# Altium schematic symbol library Rising Clamp System WR-TBL_5.00 mm.SchLib: 71 symbols
Pins are listed as number, name and electrical type; pins without a type are passive.

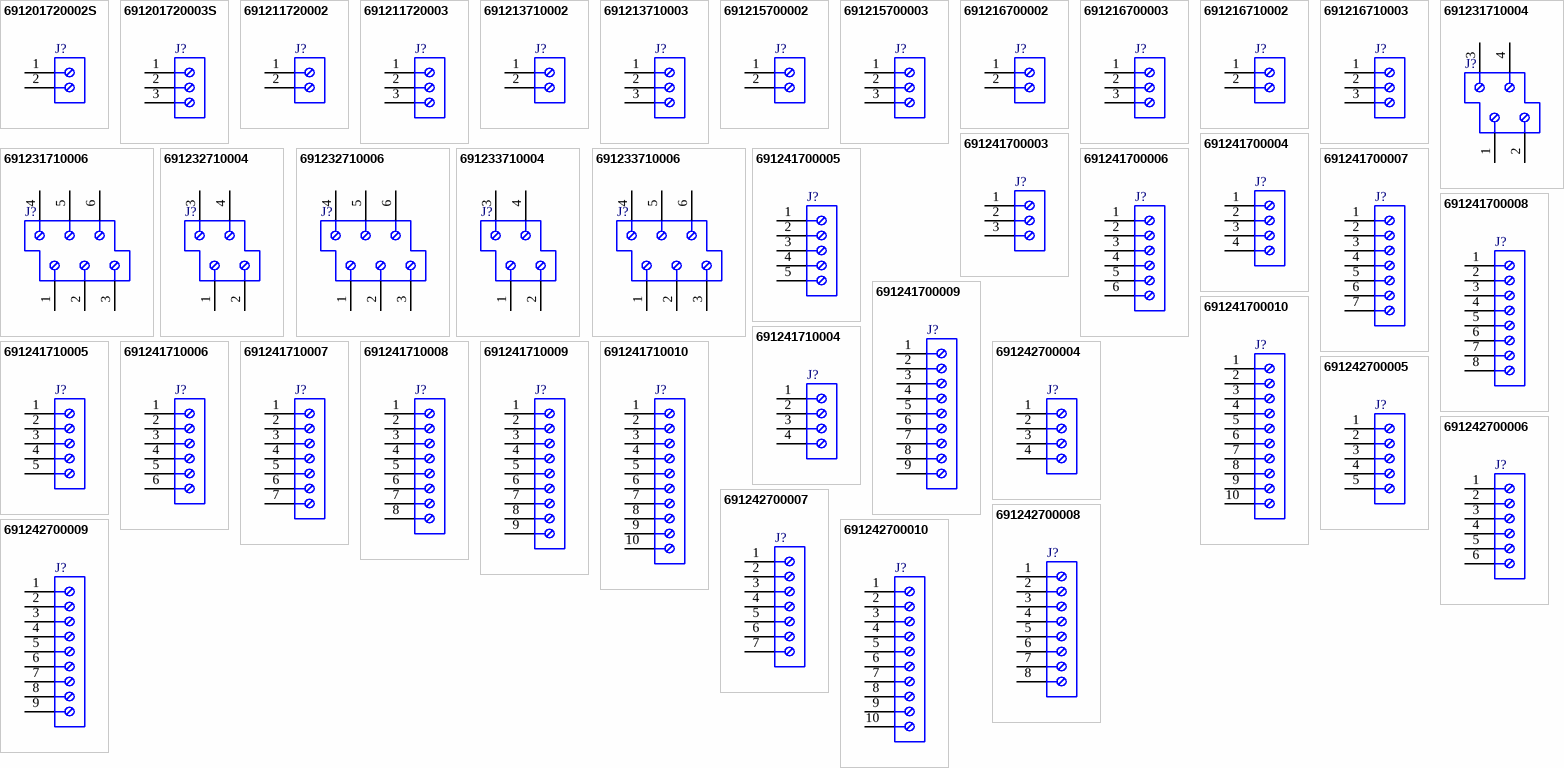
[diagram p0: symbols 691201720002S to 691242700010]

## 691201720002S
designator J?
Serie 201S - 5.00 mm 45deg Cable Entry Modular with Rising Cage Clamp WR-TBL, 2 pin; Part Number: 691201720002S; Pin Number: 2; Pitch: 5.00 mm; ComponentLink1Description: Manufacturer; ComponentLink1URL: http://www.we-online.de; ComponentLink2Description: Datasheet; ComponentLink2URL: http://katalog.we-online.de/em/datasheet/6912017200XXS.pdf; Published Date: June 2018; Publisher: Wurth Elektronik; Operating Temperature: -30 to 120 degC; Mounting Technology: THT; Packaging: Box
footprint 691201720002S
pins: 1, 2

## 691201720003S
designator J?
Serie 201S - 5.00 mm 45deg Cable Entry Modular with Rising Cage Clamp WR-TBL, 3 pin; Part Number: 691201720003S; Pin Number: 3; Pitch: 5.00 mm; ComponentLink1Description: Manufacturer; ComponentLink1URL: http://www.we-online.de; ComponentLink2Description: Datasheet; ComponentLink2URL: http://katalog.we-online.de/em/datasheet/6912017200XXS.pdf; Published Date: June 2018; Publisher: Wurth Elektronik; Operating Temperature: -30 to 120 degC; Mounting Technology: THT; Packaging: Box
footprint 691201720003S
pins: 1, 2, 3

## 691211720002
designator J?
Serie 211 - 5.00 mm 45deg Entry Modular with Rising Cage Clamp - 15.50 mm Height WR-TBL, 2 pin; Part Number: 691211720002; Pin Number: 2; Pitch: 5.00 mm; ComponentLink1Description: Manufacturer; ComponentLink1URL: http://www.we-online.de; ComponentLink2Description: Datasheet; ComponentLink2URL: http://katalog.we-online.de/em/datasheet/6912117200xx.pdf; Published Date: June 2018; Publisher: Wurth Elektronik; Operating Temperature: -40 to 105 degC; Mounting Technology: THT; Packaging: Box
footprint 691211720002
pins: 1, 2

## 691211720003
designator J?
Serie 211 - 5.00 mm 45deg Entry Modular with Rising Cage Clamp - 15.50 mm Height WR-TBL, 3 pin; Part Number: 691211720003; Pin Number: 3; Pitch: 5.00 mm; ComponentLink1Description: Manufacturer; ComponentLink1URL: http://www.we-online.de; ComponentLink2Description: Datasheet; ComponentLink2URL: http://katalog.we-online.de/em/datasheet/6912117200xx.pdf; Published Date: June 2018; Publisher: Wurth Elektronik; Operating Temperature: -40 to 105 degC; Mounting Technology: THT; Packaging: Box
footprint 691211720003
pins: 1, 2, 3

## 691213710002
designator J?
Serie 213 - 5.00 mm Horizontal Entry Modular with RisingCage Clamp WR-TBL, 2 pin; Part Number: 691213710002; Pin Number: 2; Pitch: 5.00 mm; ComponentLink1Description: Manufacturer; ComponentLink1URL: http://www.we-online.de; ComponentLink2Description: Datasheet; ComponentLink2URL: http://katalog.we-online.de/em/datasheet/6912137100xx.pdf; Published Date: June 2018; Publisher: Wurth Elektronik; Operating Temperature: -40 to 105 degC; Mounting Technology: THT; Packaging: Box
footprint 691213710002
pins: 1, 2

## 691213710003
designator J?
Serie 213 - 5.00 mm Horizontal Entry Modular with RisingCage Clamp WR-TBL, 3 pin; Part Number: 691213710003; Pin Number: 3; Pitch: 5.00 mm; ComponentLink1Description: Manufacturer; ComponentLink1URL: http://www.we-online.de; ComponentLink2Description: Datasheet; ComponentLink2URL: http://katalog.we-online.de/em/datasheet/6912137100xx.pdf; Published Date: June 2018; Publisher: Wurth Elektronik; Operating Temperature: -40 to 105 degC; Mounting Technology: THT; Packaging: Box
footprint 691213710003
pins: 1, 2, 3

## 691215700002
designator J?
Serie 2157 - 5.00 mm Vertical Entry Modular with Rising Cage Clamp WR-TBL, 2 pin; Part Number: 691215700002; Pin Number: 2; Pitch: 5.00 mm; ComponentLink1Description: Manufacturer; ComponentLink1URL: http://www.we-online.de; ComponentLink2Description: Datasheet; ComponentLink2URL: http://katalog.we-online.de/em/datasheet/6912157000xx.pdf; Published Date: June 2018; Publisher: Wurth Elektronik; Operating Temperature: -40 to 105 degC; Mounting Technology: THT; Packaging: Box
footprint 691215700002
pins: 1, 2

## 691215700003
designator J?
Serie 2157 - 5.00 mm Vertical Entry Modular with Rising Cage Clamp WR-TBL, 3 pin; Part Number: 691215700003; Pin Number: 3; Pitch: 5.00 mm; ComponentLink1Description: Manufacturer; ComponentLink1URL: http://www.we-online.de; ComponentLink2Description: Datasheet; ComponentLink2URL: http://katalog.we-online.de/em/datasheet/6912157000xx.pdf; Published Date: June 2018; Publisher: Wurth Elektronik; Operating Temperature: -40 to 105 degC; Mounting Technology: THT; Packaging: Box
footprint 691215700003
pins: 1, 2, 3

## 691216700002
designator J?
Serie 2167 - 5.00 mm Vertical Entry Modular with Rising Cage Clamp WR-TBL, 2 pin; Part Number: 691216700002; Pin Number: 2; Pitch: 5.00 mm; ComponentLink1Description: Manufacturer; ComponentLink1URL: http://www.we-online.de; ComponentLink2Description: Datasheet; ComponentLink2URL: http://katalog.we-online.de/em/datasheet/6912167000xx.pdf; Published Date: June 2018; Publisher: Wurth Elektronik; Operating Temperature: -30 to 120 degC; Mounting Technology: THT; Packaging: Box
footprint 691216700002
pins: 1, 2

## 691216700003
designator J?
Serie 2167 - 5.00 mm Vertical Entry Modular with Rising Cage Clamp WR-TBL, 3 pin; Part Number: 691216700003; Pin Number: 3; Pitch: 5.00 mm; ComponentLink1Description: Manufacturer; ComponentLink1URL: http://www.we-online.de; ComponentLink2Description: Datasheet; ComponentLink2URL: http://katalog.we-online.de/em/datasheet/6912167000xx.pdf; Published Date: June 2018; Publisher: Wurth Elektronik; Operating Temperature: -30 to 120 degC; Mounting Technology: THT; Packaging: Box
footprint 691216700003
pins: 1, 2, 3

## 691216710002
designator J?
Serie 2167 - 5.00 mm Horizontal Cable Entry Modular with Rising Cage Clamp WR-TBL, 2 pin; Part Number: 691216710002; Pin Number: 2; Pitch: 5.00 mm; ComponentLink1Description: Manufacturer; ComponentLink1URL: http://www.we-online.de; ComponentLink2Description: Datasheet; ComponentLink2URL: http://katalog.we-online.de/em/datasheet/6912167100XX.pdf; Published Date: June 2018; Publisher: Wurth Elektronik; Operating Temperature: -30 to 120 degC; Mounting Technology: THT; Packaging: Box
footprint 691216710002
pins: 1, 2

## 691216710003
designator J?
Serie 2167 - 5.00 mm Horizontal Cable Entry Modular with Rising Cage Clamp WR-TBL, 3 pin; Part Number: 691216710003; Pin Number: 3; Pitch: 5.00 mm; ComponentLink1Description: Manufacturer; ComponentLink1URL: http://www.we-online.de; ComponentLink2Description: Datasheet; ComponentLink2URL: http://katalog.we-online.de/em/datasheet/6912167100XX.pdf; Published Date: June 2018; Publisher: Wurth Elektronik; Operating Temperature: -30 to 120 degC; Mounting Technology: THT; Packaging: Box
footprint 691216710003
pins: 1, 2, 3

## 691231710004
designator J?
Serie 2317 - 5.00 mm Double Level Horizontal Entry Modular with Rising Cage WR-TBL, 4 pin; Part Number: 691231710004; Pin Number: 4; Pitch: 5.00 mm; ComponentLink1Description: Manufacturer; ComponentLink1URL: http://www.we-online.de; ComponentLink2Description: Datasheet; ComponentLink2URL: http://katalog.we-online.de/em/datasheet/6912317100xx.pdf; Published Date: June 2018; Publisher: Wurth Elektronik; Operating Temperature: -40 to 105 degC; Mounting Technology: THT; Packaging: Box
footprint 691231710004
pins: 1, 2, 3, 4

## 691231710006
designator J?
Serie 2317 - 5.00 mm Double Level Horizontal Entry Modular with Rising Cage WR-TBL, 6 pin; Part Number: 691231710006; Pin Number: 6; Pitch: 5.00 mm; ComponentLink1Description: Manufacturer; ComponentLink1URL: http://www.we-online.de; ComponentLink2Description: Datasheet; ComponentLink2URL: http://katalog.we-online.de/em/datasheet/6912317100xx.pdf; Published Date: June 2018; Publisher: Wurth Elektronik; Operating Temperature: -40 to 105 degC; Mounting Technology: THT; Packaging: Box
footprint 691231710006
pins: 1, 2, 3, 4, 5, 6

## 691232710004
designator J?
Serie 2327 - 5.00 mm Double Level Horizontal Entry Modular with Rising Cage WR-TBL, 4 pin; Part Number: 691232710004; Pin Number: 4; Pitch: 5.00 mm; ComponentLink1Description: Manufacturer; ComponentLink1URL: http://www.we-online.de; ComponentLink2Description: Datasheet; ComponentLink2URL: http://katalog.we-online.de/em/datasheet/6912327100xx.pdf; Published Date: June 2018; Publisher: Wurth Elektronik; Operating Temperature: -40 to 105 degC; Mounting Technology: THT; Packaging: Box
footprint 691232710004
pins: 1, 2, 3, 4

## 691232710006
designator J?
Serie 2327 - 5.00 mm Double Level Horizontal Entry Modular with Rising Cage WR-TBL, 6 pin; Part Number: 691232710006; Pin Number: 6; Pitch: 5.00 mm; ComponentLink1Description: Manufacturer; ComponentLink1URL: http://www.we-online.de; ComponentLink2Description: Datasheet; ComponentLink2URL: http://katalog.we-online.de/em/datasheet/6912327100xx.pdf; Published Date: June 2018; Publisher: Wurth Elektronik; Operating Temperature: -40 to 105 degC; Mounting Technology: THT; Packaging: Box
footprint 691232710006
pins: 1, 2, 3, 4, 5, 6

## 691233710004
designator J?
Serie 2337 - 5.00 mm Double Level Horizontal Entry Modular with Rising Cage WR-TBL, 4 pin; Part Number: 691233710004; Pin Number: 4; Pitch: 5.00 mm; ComponentLink1Description: Manufacturer; ComponentLink1URL: http://www.we-online.de; ComponentLink2Description: Datasheet; ComponentLink2URL: http://katalog.we-online.de/em/datasheet/6912337100xx.pdf; Published Date: June 2018; Publisher: Wurth Elektronik; Operating Temperature: -40 to 105 degC; Mounting Technology: THT; Packaging: Box
footprint 691233710004
pins: 1, 2, 3, 4

## 691233710006
designator J?
Serie 2337 - 5.00 mm Double Level Horizontal Entry Modular with Rising Cage WR-TBL, 6 pin; Part Number: 691233710006; Pin Number: 6; Pitch: 5.00 mm; ComponentLink1Description: Manufacturer; ComponentLink1URL: http://www.we-online.de; ComponentLink2Description: Datasheet; ComponentLink2URL: http://katalog.we-online.de/em/datasheet/6912337100xx.pdf; Published Date: June 2018; Publisher: Wurth Elektronik; Operating Temperature: -40 to 105 degC; Mounting Technology: THT; Packaging: Box
footprint 691233710006
pins: 1, 2, 3, 4, 5, 6

## 691241700003
designator J?
Serie 2417 - 5.00 mm Vertical Cable Entry with Rising Cage Clamp WR-TBL, 3 pin; Part Number: 691241700003; Pin Number: 3; Pitch: 5.00 mm; ComponentLink1Description: Manufacturer; ComponentLink1URL: http://www.we-online.de; ComponentLink2Description: Datasheet; ComponentLink2URL: http://katalog.we-online.de/em/datasheet/691241700003.pdf; Published Date: June 2018; Publisher: Wurth Elektronik; Operating Temperature: -30 to 120 degC; Mounting Technology: THT; Packaging: Box
footprint 691241700003
pins: 1, 2, 3

## 691241700004
designator J?
Serie 2417 - 5.00 mm Vertical Cable Entry with Rising Cage Clamp WR-TBL, 4 pin; Part Number: 691241700004; Pin Number: 4; Pitch: 5.00 mm; ComponentLink1Description: Manufacturer; ComponentLink1URL: http://www.we-online.de; ComponentLink2Description: Datasheet; ComponentLink2URL: http://katalog.we-online.de/em/datasheet/691241700004.pdf; Published Date: June 2018; Publisher: Wurth Elektronik; Operating Temperature: -30 to 120 degC; Mounting Technology: THT; Packaging: Box
footprint 691241700004
pins: 1, 2, 3, 4

## 691241700005
designator J?
Serie 2417 - 5.00 mm Vertical Cable Entry with Rising Cage Clamp WR-TBL, 5 pin; Part Number: 691241700005; Pin Number: 5; Pitch: 5.00 mm; ComponentLink1Description: Manufacturer; ComponentLink1URL: http://www.we-online.de; ComponentLink2Description: Datasheet; ComponentLink2URL: http://katalog.we-online.de/em/datasheet/691241700005.pdf; Published Date: June 2018; Publisher: Wurth Elektronik; Operating Temperature: -30 to 120 degC; Mounting Technology: THT; Packaging: Box
footprint 691241700005
pins: 1, 2, 3, 4, 5

## 691241700006
designator J?
Serie 2417 - 5.00 mm Vertical Cable Entry with Rising Cage Clamp WR-TBL, 6 pin; Part Number: 691241700006; Pin Number: 6; Pitch: 5.00 mm; ComponentLink1Description: Manufacturer; ComponentLink1URL: http://www.we-online.de; ComponentLink2Description: Datasheet; ComponentLink2URL: http://katalog.we-online.de/em/datasheet/691241700006.pdf; Published Date: June 2018; Publisher: Wurth Elektronik; Operating Temperature: -30 to 120 degC; Mounting Technology: THT; Packaging: Box
footprint 691241700006
pins: 1, 2, 3, 4, 5, 6

## 691241700007
designator J?
Serie 2417 - 5.00 mm Vertical Cable Entry with Rising Cage Clamp WR-TBL, 7 pin; Part Number: 691241700007; Pin Number: 7; Pitch: 5.00 mm; ComponentLink1Description: Manufacturer; ComponentLink1URL: http://www.we-online.de; ComponentLink2Description: Datasheet; ComponentLink2URL: http://katalog.we-online.de/em/datasheet/691241700007.pdf; Published Date: June 2018; Publisher: Wurth Elektronik; Operating Temperature: -30 to 120 degC; Mounting Technology: THT; Packaging: Box
footprint 691241700007
pins: 1, 2, 3, 4, 5, 6, 7

## 691241700008
designator J?
Serie 2417 - 5.00 mm Vertical Cable Entry with Rising Cage Clamp WR-TBL, 8 pin; Part Number: 691241700008; Pin Number: 8; Pitch: 5.00 mm; ComponentLink1Description: Manufacturer; ComponentLink1URL: http://www.we-online.de; ComponentLink2Description: Datasheet; ComponentLink2URL: http://katalog.we-online.de/em/datasheet/691241700008.pdf; Published Date: June 2018; Publisher: Wurth Elektronik; Operating Temperature: -30 to 120 degC; Mounting Technology: THT; Packaging: Box
footprint 691241700008
pins: 1, 2, 3, 4, 5, 6, 7, 8

## 691241700009
designator J?
Serie 2417 - 5.00 mm Vertical Cable Entry with Rising Cage Clamp WR-TBL, 9 pin; Part Number: 691241700009; Pin Number: 9; Pitch: 5.00 mm; ComponentLink1Description: Manufacturer; ComponentLink1URL: http://www.we-online.de; ComponentLink2Description: Datasheet; ComponentLink2URL: http://katalog.we-online.de/em/datasheet/691241700009.pdf; Published Date: June 2018; Publisher: Wurth Elektronik; Operating Temperature: -30 to 120 degC; Mounting Technology: THT; Packaging: Box
footprint 691241700009
pins: 1, 2, 3, 4, 5, 6, 7, 8, 9

## 691241700010
designator J?
Serie 2417 - 5.00 mm Vertical Cable Entry with Rising Cage Clamp WR-TBL, 10 pin; Part Number: 691241700010; Pin Number: 10; Pitch: 5.00 mm; ComponentLink1Description: Manufacturer; ComponentLink1URL: http://www.we-online.de; ComponentLink2Description: Datasheet; ComponentLink2URL: http://katalog.we-online.de/em/datasheet/691241700010.pdf; Published Date: June 2018; Publisher: Wurth Elektronik; Operating Temperature: -30 to 120 degC; Mounting Technology: THT; Packaging: Box
footprint 691241700010
pins: 1, 2, 3, 4, 5, 6, 7, 8, 9, 10

## 691241710004
designator J?
Serie 2417 - 5.00 mm Horizontal Entry with Rising Cage Clamp WR-TBL, 4 pin; Part Number: 691241710004; Pin Number: 4; Pitch: 5.00 mm; ComponentLink1Description: Manufacturer; ComponentLink1URL: http://www.we-online.de; ComponentLink2Description: Datasheet; ComponentLink2URL: http://katalog.we-online.de/em/datasheet/6912417100xx.pdf; Published Date: June 2018; Publisher: Wurth Elektronik; Operating Temperature: -30 to 120 degC; Mounting Technology: THT; Packaging: Box
footprint 691241710004
pins: 1, 2, 3, 4

## 691241710005
designator J?
Serie 2417 - 5.00 mm Horizontal Entry with Rising Cage Clamp WR-TBL, 5 pin; Part Number: 691241710005; Pin Number: 5; Pitch: 5.00 mm; ComponentLink1Description: Manufacturer; ComponentLink1URL: http://www.we-online.de; ComponentLink2Description: Datasheet; ComponentLink2URL: http://katalog.we-online.de/em/datasheet/6912417100xx.pdf; Published Date: June 2018; Publisher: Wurth Elektronik; Operating Temperature: -30 to 120 degC; Mounting Technology: THT; Packaging: Box
footprint 691241710005
pins: 1, 2, 3, 4, 5

## 691241710006
designator J?
Serie 2417 - 5.00 mm Horizontal Entry with Rising Cage Clamp WR-TBL, 6 pin; Part Number: 691241710006; Pin Number: 6; Pitch: 5.00 mm; ComponentLink1Description: Manufacturer; ComponentLink1URL: http://www.we-online.de; ComponentLink2Description: Datasheet; ComponentLink2URL: http://katalog.we-online.de/em/datasheet/6912417100xx.pdf; Published Date: June 2018; Publisher: Wurth Elektronik; Operating Temperature: -30 to 120 degC; Mounting Technology: THT; Packaging: Box
footprint 691241710006
pins: 1, 2, 3, 4, 5, 6

## 691241710007
designator J?
Serie 2417 - 5.00 mm Horizontal Entry with Rising Cage Clamp WR-TBL, 7 pin; Part Number: 691241710007; Pin Number: 7; Pitch: 5.00 mm; ComponentLink1Description: Manufacturer; ComponentLink1URL: http://www.we-online.de; ComponentLink2Description: Datasheet; ComponentLink2URL: http://katalog.we-online.de/em/datasheet/6912417100xx.pdf; Published Date: June 2018; Publisher: Wurth Elektronik; Operating Temperature: -30 to 120 degC; Mounting Technology: THT; Packaging: Box
footprint 691241710007
pins: 1, 2, 3, 4, 5, 6, 7

## 691241710008
designator J?
Serie 2417 - 5.00 mm Horizontal Entry with Rising Cage Clamp WR-TBL, 8 pin; Part Number: 691241710008; Pin Number: 8; Pitch: 5.00 mm; ComponentLink1Description: Manufacturer; ComponentLink1URL: http://www.we-online.de; ComponentLink2Description: Datasheet; ComponentLink2URL: http://katalog.we-online.de/em/datasheet/6912417100xx.pdf; Published Date: June 2018; Publisher: Wurth Elektronik; Operating Temperature: -30 to 120 degC; Mounting Technology: THT; Packaging: Box
footprint 691241710008
pins: 1, 2, 3, 4, 5, 6, 7, 8

## 691241710009
designator J?
Serie 2417 - 5.00 mm Horizontal Entry with Rising Cage Clamp WR-TBL, 9 pin; Part Number: 691241710009; Pin Number: 9; Pitch: 5.00 mm; ComponentLink1Description: Manufacturer; ComponentLink1URL: http://www.we-online.de; ComponentLink2Description: Datasheet; ComponentLink2URL: http://katalog.we-online.de/em/datasheet/6912417100xx.pdf; Published Date: June 2018; Publisher: Wurth Elektronik; Operating Temperature: -30 to 120 degC; Mounting Technology: THT; Packaging: Box
footprint 691241710009
pins: 1, 2, 3, 4, 5, 6, 7, 8, 9

## 691241710010
designator J?
Serie 2417 - 5.00 mm Horizontal Entry with Rising Cage Clamp WR-TBL, 10 pin; Part Number: 691241710010; Pin Number: 10; Pitch: 5.00 mm; ComponentLink1Description: Manufacturer; ComponentLink1URL: http://www.we-online.de; ComponentLink2Description: Datasheet; ComponentLink2URL: http://katalog.we-online.de/em/datasheet/6912417100xx.pdf; Published Date: June 2018; Publisher: Wurth Elektronik; Operating Temperature: -30 to 120 degC; Mounting Technology: THT; Packaging: Box
footprint 691241710010
pins: 1, 2, 3, 4, 5, 6, 7, 8, 9, 10

## 691242700004
designator J?
Serie 2427 - 5.00 mm Vertical Cable Entry with Rising Cage Clamp WR-TBL, 4 pin; Part Number: 691242700004; Pin Number: 4; Pitch: 5.00 mm; ComponentLink1Description: Manufacturer; ComponentLink1URL: http://www.we-online.de; ComponentLink2Description: Datasheet; ComponentLink2URL: http://katalog.we-online.de/em/datasheet/6912427000xx.pdf; Published Date: June 2018; Publisher: Wurth Elektronik; Operating Temperature: -30 to 120 degC; Mounting Technology: THT; Packaging: Box
footprint 691242700004
pins: 1, 2, 3, 4

## 691242700005
designator J?
Serie 2427 - 5.00 mm Vertical Cable Entry with Rising Cage Clamp WR-TBL, 5 pin; Part Number: 691242700005; Pin Number: 5; Pitch: 5.00 mm; ComponentLink1Description: Manufacturer; ComponentLink1URL: http://www.we-online.de; ComponentLink2Description: Datasheet; ComponentLink2URL: http://katalog.we-online.de/em/datasheet/6912427000xx.pdf; Published Date: June 2018; Publisher: Wurth Elektronik; Operating Temperature: -30 to 120 degC; Mounting Technology: THT; Packaging: Box
footprint 691242700005
pins: 1, 2, 3, 4, 5

## 691242700006
designator J?
Serie 2427 - 5.00 mm Vertical Cable Entry with Rising Cage Clamp WR-TBL, 6 pin; Part Number: 691242700006; Pin Number: 6; Pitch: 5.00 mm; ComponentLink1Description: Manufacturer; ComponentLink1URL: http://www.we-online.de; ComponentLink2Description: Datasheet; ComponentLink2URL: http://katalog.we-online.de/em/datasheet/6912427000xx.pdf; Published Date: June 2018; Publisher: Wurth Elektronik; Operating Temperature: -30 to 120 degC; Mounting Technology: THT; Packaging: Box
footprint 691242700006
pins: 1, 2, 3, 4, 5, 6

## 691242700007
designator J?
Serie 2427 - 5.00 mm Vertical Cable Entry with Rising Cage Clamp WR-TBL, 7 pin; Part Number: 691242700007; Pin Number: 7; Pitch: 5.00 mm; ComponentLink1Description: Manufacturer; ComponentLink1URL: http://www.we-online.de; ComponentLink2Description: Datasheet; ComponentLink2URL: http://katalog.we-online.de/em/datasheet/6912427000xx.pdf; Published Date: June 2018; Publisher: Wurth Elektronik; Operating Temperature: -30 to 120 degC; Mounting Technology: THT; Packaging: Box
footprint 691242700007
pins: 1, 2, 3, 4, 5, 6, 7

## 691242700008
designator J?
Serie 2427 - 5.00 mm Vertical Cable Entry with Rising Cage Clamp WR-TBL, 8 pin; Part Number: 691242700008; Pin Number: 8; Pitch: 5.00 mm; ComponentLink1Description: Manufacturer; ComponentLink1URL: http://www.we-online.de; ComponentLink2Description: Datasheet; ComponentLink2URL: http://katalog.we-online.de/em/datasheet/6912427000xx.pdf; Published Date: June 2018; Publisher: Wurth Elektronik; Operating Temperature: -30 to 120 degC; Mounting Technology: THT; Packaging: Box
footprint 691242700008
pins: 1, 2, 3, 4, 5, 6, 7, 8

## 691242700009
designator J?
Serie 2427 - 5.00 mm Vertical Cable Entry with Rising Cage Clamp WR-TBL, 9 pin; Part Number: 691242700009; Pin Number: 9; Pitch: 5.00 mm; ComponentLink1Description: Manufacturer; ComponentLink1URL: http://www.we-online.de; ComponentLink2Description: Datasheet; ComponentLink2URL: http://katalog.we-online.de/em/datasheet/6912427000xx.pdf; Published Date: June 2018; Publisher: Wurth Elektronik; Operating Temperature: -30 to 120 degC; Mounting Technology: THT; Packaging: Box
footprint 691242700009
pins: 1, 2, 3, 4, 5, 6, 7, 8, 9

## 691242700010
designator J?
Serie 2427 - 5.00 mm Vertical Cable Entry with Rising Cage Clamp WR-TBL, 10 pin; Part Number: 691242700010; Pin Number: 10; Pitch: 5.00 mm; ComponentLink1Description: Manufacturer; ComponentLink1URL: http://www.we-online.de; ComponentLink2Description: Datasheet; ComponentLink2URL: http://katalog.we-online.de/em/datasheet/6912427000xx.pdf; Published Date: June 2018; Publisher: Wurth Elektronik; Operating Temperature: -30 to 120 degC; Mounting Technology: THT; Packaging: Box
footprint 691242700010
pins: 1, 2, 3, 4, 5, 6, 7, 8, 9, 10

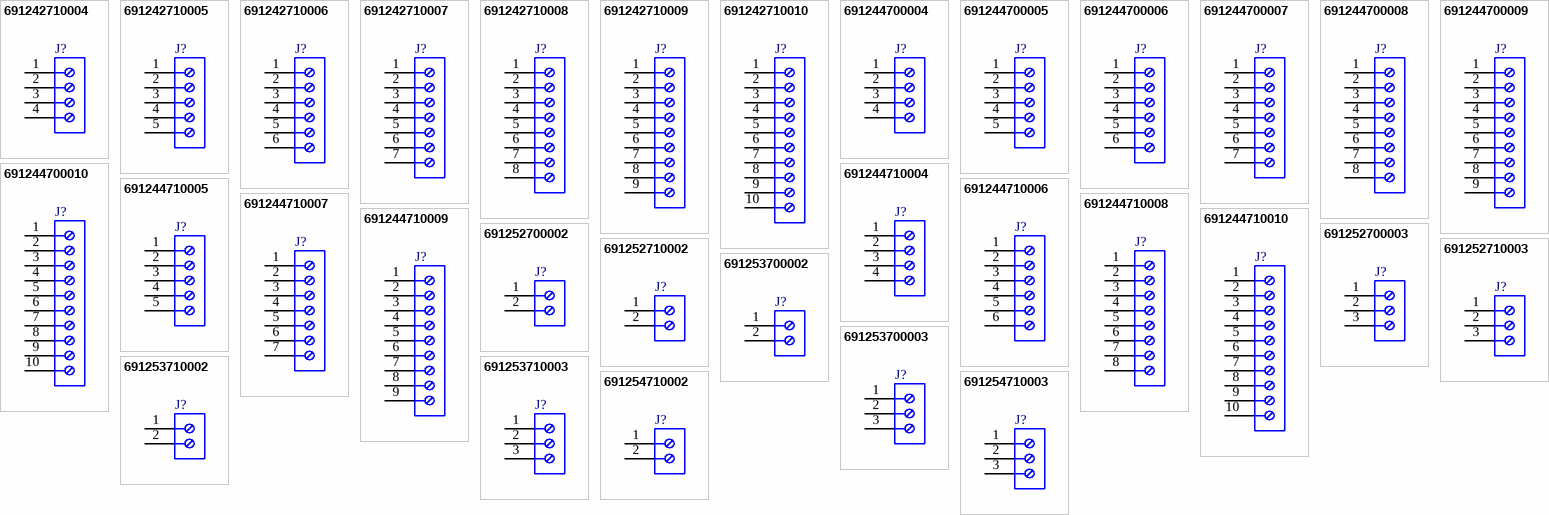
[diagram p1: symbols 691242710004 to 691254710003]

## 691242710004
designator J?
Serie 2427 - 5.00 mm Horizontal Cable Entry with Rising Cage Clamp WR-TBL, 4 pin; Part Number: 691242710004; Pin Number: 4; Pitch: 5.00 mm; ComponentLink1Description: Manufacturer; ComponentLink1URL: http://www.we-online.de; ComponentLink2Description: Datasheet; ComponentLink2URL: http://katalog.we-online.de/em/datasheet/6912427100xx.pdf; Published Date: June 2018; Publisher: Wurth Elektronik; Operating Temperature: -30 to 120 degC; Mounting Technology: THT; Packaging: Box
footprint 691242710004
pins: 1, 2, 3, 4

## 691242710005
designator J?
Serie 2427 - 5.00 mm Horizontal Cable Entry with Rising Cage Clamp WR-TBL, 5 pin; Part Number: 691242710005; Pin Number: 5; Pitch: 5.00 mm; ComponentLink1Description: Manufacturer; ComponentLink1URL: http://www.we-online.de; ComponentLink2Description: Datasheet; ComponentLink2URL: http://katalog.we-online.de/em/datasheet/6912427100xx.pdf; Published Date: June 2018; Publisher: Wurth Elektronik; Operating Temperature: -30 to 120 degC; Mounting Technology: THT; Packaging: Box
footprint 691242710005
pins: 1, 2, 3, 4, 5

## 691242710006
designator J?
Serie 2427 - 5.00 mm Horizontal Cable Entry with Rising Cage Clamp WR-TBL, 6 pin; Part Number: 691242710006; Pin Number: 6; Pitch: 5.00 mm; ComponentLink1Description: Manufacturer; ComponentLink1URL: http://www.we-online.de; ComponentLink2Description: Datasheet; ComponentLink2URL: http://katalog.we-online.de/em/datasheet/6912427100xx.pdf; Published Date: June 2018; Publisher: Wurth Elektronik; Operating Temperature: -30 to 120 degC; Mounting Technology: THT; Packaging: Box
footprint 691242710006
pins: 1, 2, 3, 4, 5, 6

## 691242710007
designator J?
Serie 2427 - 5.00 mm Horizontal Cable Entry with Rising Cage Clamp WR-TBL, 7 pin; Part Number: 691242710007; Pin Number: 7; Pitch: 5.00 mm; ComponentLink1Description: Manufacturer; ComponentLink1URL: http://www.we-online.de; ComponentLink2Description: Datasheet; ComponentLink2URL: http://katalog.we-online.de/em/datasheet/6912427100xx.pdf; Published Date: June 2018; Publisher: Wurth Elektronik; Operating Temperature: -30 to 120 degC; Mounting Technology: THT; Packaging: Box
footprint 691242710007
pins: 1, 2, 3, 4, 5, 6, 7

## 691242710008
designator J?
Serie 2427 - 5.00 mm Horizontal Cable Entry with Rising Cage Clamp WR-TBL, 8 pin; Part Number: 691242710008; Pin Number: 8; Pitch: 5.00 mm; ComponentLink1Description: Manufacturer; ComponentLink1URL: http://www.we-online.de; ComponentLink2Description: Datasheet; ComponentLink2URL: http://katalog.we-online.de/em/datasheet/6912427100xx.pdf; Published Date: June 2018; Publisher: Wurth Elektronik; Operating Temperature: -30 to 120 degC; Mounting Technology: THT; Packaging: Box
footprint 691242710008
pins: 1, 2, 3, 4, 5, 6, 7, 8

## 691242710009
designator J?
Serie 2427 - 5.00 mm Horizontal Cable Entry with Rising Cage Clamp WR-TBL, 9 pin; Part Number: 691242710009; Pin Number: 9; Pitch: 5.00 mm; ComponentLink1Description: Manufacturer; ComponentLink1URL: http://www.we-online.de; ComponentLink2Description: Datasheet; ComponentLink2URL: http://katalog.we-online.de/em/datasheet/6912427100xx.pdf; Published Date: June 2018; Publisher: Wurth Elektronik; Operating Temperature: -30 to 120 degC; Mounting Technology: THT; Packaging: Box
footprint 691242710009
pins: 1, 2, 3, 4, 5, 6, 7, 8, 9

## 691242710010
designator J?
Serie 2427 - 5.00 mm Horizontal Cable Entry with Rising Cage Clamp WR-TBL, 10 pin; Part Number: 691242710010; Pin Number: 10; Pitch: 5.00 mm; ComponentLink1Description: Manufacturer; ComponentLink1URL: http://www.we-online.de; ComponentLink2Description: Datasheet; ComponentLink2URL: http://katalog.we-online.de/em/datasheet/6912427100xx.pdf; Published Date: June 2018; Publisher: Wurth Elektronik; Operating Temperature: -30 to 120 degC; Mounting Technology: THT; Packaging: Box
footprint 691242710010
pins: 1, 2, 3, 4, 5, 6, 7, 8, 9, 10

## 691244700004
designator J?
Serie 2447 - 5.00 mm Vertical Entry with Rising Cage Clamp WR-TBL, 4 pin; Part Number: 691244700004; Pin Number: 4; Pitch: 5.00 mm; ComponentLink1Description: Manufacturer; ComponentLink1URL: http://www.we-online.de; ComponentLink2Description: Datasheet; ComponentLink2URL: http://katalog.we-online.de/em/datasheet/6912447000XX.pdf; Published Date: June 2018; Publisher: Wurth Elektronik; Operating Temperature: -30 to 120 degC; Mounting Technology: THT; Packaging: Box
footprint 691244700004
pins: 1, 2, 3, 4

## 691244700005
designator J?
Serie 2447 - 5.00 mm Vertical Entry with Rising Cage Clamp WR-TBL, 5 pin; Part Number: 691244700005; Pin Number: 5; Pitch: 5.00 mm; ComponentLink1Description: Manufacturer; ComponentLink1URL: http://www.we-online.de; ComponentLink2Description: Datasheet; ComponentLink2URL: http://katalog.we-online.de/em/datasheet/6912447000XX.pdf; Published Date: June 2018; Publisher: Wurth Elektronik; Operating Temperature: -30 to 120 degC; Mounting Technology: THT; Packaging: Box
footprint 691244700005
pins: 1, 2, 3, 4, 5

## 691244700006
designator J?
Serie 2447 - 5.00 mm Vertical Entry with Rising Cage Clamp WR-TBL, 6 pin; Part Number: 691244700006; Pin Number: 6; Pitch: 5.00 mm; ComponentLink1Description: Manufacturer; ComponentLink1URL: http://www.we-online.de; ComponentLink2Description: Datasheet; ComponentLink2URL: http://katalog.we-online.de/em/datasheet/6912447000XX.pdf; Published Date: June 2018; Publisher: Wurth Elektronik; Operating Temperature: -30 to 120 degC; Mounting Technology: THT; Packaging: Box
footprint 691244700006
pins: 1, 2, 3, 4, 5, 6

## 691244700007
designator J?
Serie 2447 - 5.00 mm Vertical Entry with Rising Cage Clamp WR-TBL, 7 pin; Part Number: 691244700007; Pin Number: 7; Pitch: 5.00 mm; ComponentLink1Description: Manufacturer; ComponentLink1URL: http://www.we-online.de; ComponentLink2Description: Datasheet; ComponentLink2URL: http://katalog.we-online.de/em/datasheet/6912447000XX.pdf; Published Date: June 2018; Publisher: Wurth Elektronik; Operating Temperature: -30 to 120 degC; Mounting Technology: THT; Packaging: Box
footprint 691244700007
pins: 1, 2, 3, 4, 5, 6, 7

## 691244700008
designator J?
Serie 2447 - 5.00 mm Vertical Entry with Rising Cage Clamp WR-TBL, 8 pin; Part Number: 691244700008; Pin Number: 8; Pitch: 5.00 mm; ComponentLink1Description: Manufacturer; ComponentLink1URL: http://www.we-online.de; ComponentLink2Description: Datasheet; ComponentLink2URL: http://katalog.we-online.de/em/datasheet/6912447000XX.pdf; Published Date: June 2018; Publisher: Wurth Elektronik; Operating Temperature: -30 to 120 degC; Mounting Technology: THT; Packaging: Box
footprint 691244700008
pins: 1, 2, 3, 4, 5, 6, 7, 8

## 691244700009
designator J?
Serie 2447 - 5.00 mm Vertical Entry with Rising Cage Clamp WR-TBL, 9 pin; Part Number: 691244700009; Pin Number: 9; Pitch: 5.00 mm; ComponentLink1Description: Manufacturer; ComponentLink1URL: http://www.we-online.de; ComponentLink2Description: Datasheet; ComponentLink2URL: http://katalog.we-online.de/em/datasheet/6912447000XX.pdf; Published Date: June 2018; Publisher: Wurth Elektronik; Operating Temperature: -30 to 120 degC; Mounting Technology: THT; Packaging: Box
footprint 691244700009
pins: 1, 2, 3, 4, 5, 6, 7, 8, 9

## 691244700010
designator J?
Serie 2447 - 5.00 mm Vertical Entry with Rising Cage Clamp WR-TBL, 10 pin; Part Number: 691244700010; Pin Number: 10; Pitch: 5.00 mm; ComponentLink1Description: Manufacturer; ComponentLink1URL: http://www.we-online.de; ComponentLink2Description: Datasheet; ComponentLink2URL: http://katalog.we-online.de/em/datasheet/6912447000XX.pdf; Published Date: June 2018; Publisher: Wurth Elektronik; Operating Temperature: -30 to 120 degC; Mounting Technology: THT; Packaging: Box
footprint 691244700010
pins: 1, 2, 3, 4, 5, 6, 7, 8, 9, 10

## 691244710004
designator J?
Serie 2447 - 5.00 mm Horizontal Cable Entry with Rising Cage Clamp WR-TBL, 4 pin; Part Number: 691244710004; Pin Number: 4; Pitch: 5.00 mm; ComponentLink1Description: Manufacturer; ComponentLink1URL: http://www.we-online.de; ComponentLink2Description: Datasheet; ComponentLink2URL: http://katalog.we-online.de/em/datasheet/6912447100XX.pdf; Published Date: June 2018; Publisher: Wurth Elektronik; Operating Temperature: -30 to 120 degC; Mounting Technology: THT; Packaging: Box
footprint 691244710004
pins: 1, 2, 3, 4

## 691244710005
designator J?
Serie 2447 - 5.00 mm Horizontal Cable Entry with Rising Cage Clamp WR-TBL, 5 pin; Part Number: 691244710005; Pin Number: 5; Pitch: 5.00 mm; ComponentLink1Description: Manufacturer; ComponentLink1URL: http://www.we-online.de; ComponentLink2Description: Datasheet; ComponentLink2URL: http://katalog.we-online.de/em/datasheet/6912447100XX.pdf; Published Date: June 2018; Publisher: Wurth Elektronik; Operating Temperature: -30 to 120 degC; Mounting Technology: THT; Packaging: Box
footprint 691244710005
pins: 1, 2, 3, 4, 5

## 691244710006
designator J?
Serie 2447 - 5.00 mm Horizontal Cable Entry with Rising Cage Clamp WR-TBL, 6 pin; Part Number: 691244710006; Pin Number: 6; Pitch: 5.00 mm; ComponentLink1Description: Manufacturer; ComponentLink1URL: http://www.we-online.de; ComponentLink2Description: Datasheet; ComponentLink2URL: http://katalog.we-online.de/em/datasheet/6912447100XX.pdf; Published Date: June 2018; Publisher: Wurth Elektronik; Operating Temperature: -30 to 120 degC; Mounting Technology: THT; Packaging: Box
footprint 691244710006
pins: 1, 2, 3, 4, 5, 6

## 691244710007
designator J?
Serie 2447 - 5.00 mm Horizontal Cable Entry with Rising Cage Clamp WR-TBL, 7 pin; Part Number: 691244710007; Pin Number: 7; Pitch: 5.00 mm; ComponentLink1Description: Manufacturer; ComponentLink1URL: http://www.we-online.de; ComponentLink2Description: Datasheet; ComponentLink2URL: http://katalog.we-online.de/em/datasheet/6912447100XX.pdf; Published Date: June 2018; Publisher: Wurth Elektronik; Operating Temperature: -30 to 120 degC; Mounting Technology: THT; Packaging: Box
footprint 691244710007
pins: 1, 2, 3, 4, 5, 6, 7

## 691244710008
designator J?
Serie 2447 - 5.00 mm Horizontal Cable Entry with Rising Cage Clamp WR-TBL, 8 pin; Part Number: 691244710008; Pin Number: 8; Pitch: 5.00 mm; ComponentLink1Description: Manufacturer; ComponentLink1URL: http://www.we-online.de; ComponentLink2Description: Datasheet; ComponentLink2URL: http://katalog.we-online.de/em/datasheet/6912447100XX.pdf; Published Date: June 2018; Publisher: Wurth Elektronik; Operating Temperature: -30 to 120 degC; Mounting Technology: THT; Packaging: Box
footprint 691244710008
pins: 1, 2, 3, 4, 5, 6, 7, 8

## 691244710009
designator J?
Serie 2447 - 5.00 mm Horizontal Cable Entry with Rising Cage Clamp WR-TBL, 9 pin; Part Number: 691244710009; Pin Number: 9; Pitch: 5.00 mm; ComponentLink1Description: Manufacturer; ComponentLink1URL: http://www.we-online.de; ComponentLink2Description: Datasheet; ComponentLink2URL: http://katalog.we-online.de/em/datasheet/6912447100XX.pdf; Published Date: June 2018; Publisher: Wurth Elektronik; Operating Temperature: -30 to 120 degC; Mounting Technology: THT; Packaging: Box
footprint 691244710009
pins: 1, 2, 3, 4, 5, 6, 7, 8, 9

## 691244710010
designator J?
Serie 2447 - 5.00 mm Horizontal Cable Entry with Rising Cage Clamp WR-TBL, 10 pin; Part Number: 691244710010; Pin Number: 10; Pitch: 5.00 mm; ComponentLink1Description: Manufacturer; ComponentLink1URL: http://www.we-online.de; ComponentLink2Description: Datasheet; ComponentLink2URL: http://katalog.we-online.de/em/datasheet/6912447100XX.pdf; Published Date: June 2018; Publisher: Wurth Elektronik; Operating Temperature: -30 to 120 degC; Mounting Technology: THT; Packaging: Box
footprint 691244710010
pins: 1, 2, 3, 4, 5, 6, 7, 8, 9, 10

## 691252700002
designator J?
Serie 2527 - 5.00 mm Vertical Entry Modular with Rising Cage Clamp WR-TBL, 2 pin; Part Number: 691252700002; Pin Number: 2; Pitch: 5.00 mm; ComponentLink1Description: Manufacturer; ComponentLink1URL: http://www.we-online.de; ComponentLink2Description: Datasheet; ComponentLink2URL: http://katalog.we-online.de/em/datasheet/6912527000XX.pdf; Published Date: June 2018; Publisher: Wurth Elektronik; Operating Temperature: -30 to 120 degC; Mounting Technology: THT; Packaging: Box
footprint 691252700002
pins: 1, 2

## 691252700003
designator J?
Serie 2527 - 5.00 mm Vertical Entry Modular with Rising Cage Clamp WR-TBL, 3 pin; Part Number: 691252700003; Pin Number: 3; Pitch: 5.00 mm; ComponentLink1Description: Manufacturer; ComponentLink1URL: http://www.we-online.de; ComponentLink2Description: Datasheet; ComponentLink2URL: http://katalog.we-online.de/em/datasheet/6912527000XX.pdf; Published Date: June 2018; Publisher: Wurth Elektronik; Operating Temperature: -30 to 120 degC; Mounting Technology: THT; Packaging: Box
footprint 691252700003
pins: 1, 2, 3

## 691252710002
designator J?
Serie 2527 - 5.00 mm Horizontal Entry Modular with Rising Cage Clamp WR-TBL, 2 pin; Part Number: 691252710002; Pin Number: 2; Pitch: 5.00 mm; ComponentLink1Description: Manufacturer; ComponentLink1URL: http://www.we-online.de; ComponentLink2Description: Datasheet; ComponentLink2URL: http://katalog.we-online.de/em/datasheet/6912527100XX.pdf; Published Date: June 2018; Publisher: Wurth Elektronik; Operating Temperature: -30 to 120 degC; Mounting Technology: THT; Packaging: Box
footprint 691252710002
pins: 1, 2

## 691252710003
designator J?
Serie 2527 - 5.00 mm Horizontal Entry Modular with Rising Cage Clamp WR-TBL, 3 pin; Part Number: 691252710003; Pin Number: 3; Pitch: 5.00 mm; ComponentLink1Description: Manufacturer; ComponentLink1URL: http://www.we-online.de; ComponentLink2Description: Datasheet; ComponentLink2URL: http://katalog.we-online.de/em/datasheet/6912527100XX.pdf; Published Date: June 2018; Publisher: Wurth Elektronik; Operating Temperature: -30 to 120 degC; Mounting Technology: THT; Packaging: Box
footprint 691252710003
pins: 1, 2, 3

## 691253700002
designator J?
Serie 2537 - 5.00 mm Vertical Cable Entry Modular with Rising Cage Clamp WR-TBL, 2 pin; Part Number: 691253700002; Pin Number: 2; Pitch: 5.00 mm; ComponentLink1Description: Manufacturer; ComponentLink1URL: http://www.we-online.de; ComponentLink2Description: Datasheet; ComponentLink2URL: http://katalog.we-online.de/em/datasheet/6912537000XX.pdf; Published Date: June 2018; Publisher: Wurth Elektronik; Operating Temperature: -30 to 120 degC; Mounting Technology: THT; Packaging: Box
footprint 691253700002
pins: 1, 2

## 691253700003
designator J?
Serie 2537 - 5.00 mm Vertical Cable Entry Modular with Rising Cage Clamp WR-TBL, 3 pin; Part Number: 691253700003; Pin Number: 3; Pitch: 5.00 mm; ComponentLink1Description: Manufacturer; ComponentLink1URL: http://www.we-online.de; ComponentLink2Description: Datasheet; ComponentLink2URL: http://katalog.we-online.de/em/datasheet/6912537000XX.pdf; Published Date: June 2018; Publisher: Wurth Elektronik; Operating Temperature: -30 to 120 degC; Mounting Technology: THT; Packaging: Box
footprint 691253700003
pins: 1, 2, 3

## 691253710002
designator J?
Serie 2537 - 5.00 mm Horizontal Cable Entry Modular with Rising Cage Clamp WR-TBL, 2 pin; Part Number: 691253710002; Pin Number: 2; Pitch: 5.00 mm; ComponentLink1Description: Manufacturer; ComponentLink1URL: http://www.we-online.de; ComponentLink2Description: Datasheet; ComponentLink2URL: http://katalog.we-online.de/em/datasheet/6912537100XX.pdf; Published Date: June 2018; Publisher: Wurth Elektronik; Operating Temperature: -30 to 120 degC; Mounting Technology: THT; Packaging: Box
footprint 691253710002
pins: 1, 2

## 691253710003
designator J?
Serie 2537 - 5.00 mm Horizontal Cable Entry Modular with Rising Cage Clamp WR-TBL, 3 pin; Part Number: 691253710003; Pin Number: 3; Pitch: 5.00 mm; ComponentLink1Description: Manufacturer; ComponentLink1URL: http://www.we-online.de; ComponentLink2Description: Datasheet; ComponentLink2URL: http://katalog.we-online.de/em/datasheet/6912537100XX.pdf; Published Date: June 2018; Publisher: Wurth Elektronik; Operating Temperature: -30 to 120 degC; Mounting Technology: THT; Packaging: Box
footprint 691253710003
pins: 1, 2, 3

## 691254710002
designator J?
Serie 2547 - 5.00 mm Horizontal Cable Entry Rising Cage WR-TBL, 2 pin; Part Number: 691254710002; Pin Number: 2; Pitch: 5.00 mm; ComponentLink1Description: Manufacturer; ComponentLink1URL: http://www.we-online.de; ComponentLink2Description: Datasheet; ComponentLink2URL: http://katalog.we-online.de/em/datasheet/6912547100xx.pdf; Published Date: June 2018; Publisher: Wurth Elektronik; Operating Temperature: -30 to 120 degC; Mounting Technology: THT; Packaging: Box
footprint 691254710002
pins: 1, 2

## 691254710003
designator J?
Serie 2547 - 5.00 mm Horizontal Cable Entry Rising Cage WR-TBL, 3 pin; Part Number: 691254710003; Pin Number: 3; Pitch: 5.00 mm; ComponentLink1Description: Manufacturer; ComponentLink1URL: http://www.we-online.de; ComponentLink2Description: Datasheet; ComponentLink2URL: http://katalog.we-online.de/em/datasheet/6912547100xx.pdf; Published Date: June 2018; Publisher: Wurth Elektronik; Operating Temperature: -30 to 120 degC; Mounting Technology: THT; Packaging: Box
footprint 691254710003
pins: 1, 2, 3